# EAGLE library part ARJE-0032 (library CONNECTORs)
RJ45, Single Port, Tap Up, Thru-Hole, 100 Base-T with Single USB
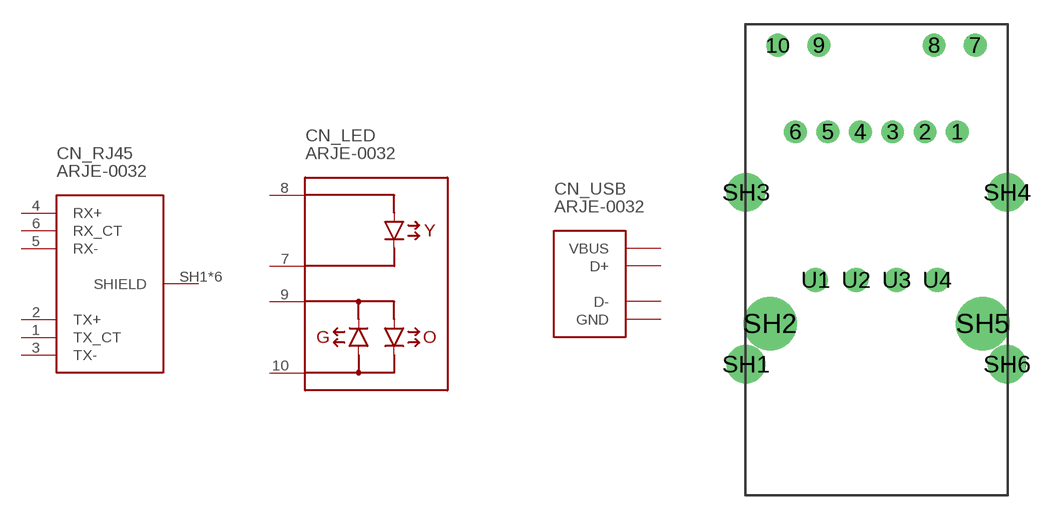
[diagram p49: symbol with the pads of ARJE-0032; footprint ARJE-0032]

Designator prefix CN; gates _LED=ETHERNET_LED1 _USB=USB _RJ45=LAN_NOLED

## ARJE-0032 (DIGIKEY: 535-12442-ND; HEIGHT: 21; PRICE_PER: 3.82; VALUE: RJ45 USB)  [ARJE-0032]
1  _RJ45:TX_CT
2  _RJ45:TX+
3  _RJ45:TX-
4  _RJ45:RX+
5  _RJ45:RX-
6  _RJ45:RX_CT
7  _LED:LED_Y_K
8  _LED:LED_Y_A
9  _LED:LED_G_K
10  _LED:LED_O_K
SH1  _RJ45:SHIELD
SH2  _RJ45:SHIELD
SH3  _RJ45:SHIELD
SH4  _RJ45:SHIELD
SH5  _RJ45:SHIELD
SH6  _RJ45:SHIELD
U1  _USB:VBUS
U2  _USB:D-
U3  _USB:D+
U4  _USB:GND

## Footprint ARJE-0032 (pad centres in mm)
drill 0.9: 1 5,14.35; 2 3,14.35; 3 1,14.35; 4 -1,14.35; 5 -3,14.35; 6 -5,14.35; 7 6.1,19.7; 8 3.56,19.7; 9 -3.56,19.7; 10 -6.1,19.7
drill 1.6: SH1 -8.065,0; SH3 -8.065,10.62; SH4 8.065,10.62; SH6 8.065,0
drill 2.3: SH2 -6.57,2.5; SH5 6.57,2.5
drill 1: U1 -3.75,5.2; U2 -1.25,5.2; U3 1.25,5.2; U4 3.75,5.2